# EAGLE library part 1X6-2.0 (library JLB6_Connec)
6 pin header pitch 2.0mm
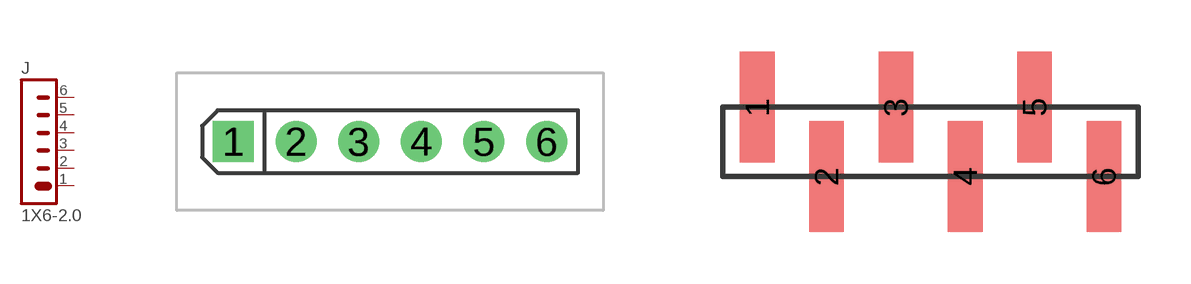
[diagram p79: symbol with the pads of 1X6-2.0; footprints 1X6-2.0, 1X6-2.0-SMD]

Designator prefix J

## 1X6-2.0TH  [1X6-2.0]
1  1  pas
2  2  pas
3  3  pas
4  4  pas
5  5  pas
6  6  pas

## 1X6-2.0SMD  [1X6-2.0-SMD]
Pads as for 1X6-2.0

## 1X6-2.0JST  [1X6-PH2.0-JST-EM]
Pads as for 1X6-2.0

## 1X6-2.0PH90  [1X6-PH2.0-JST-EM-90]
Pads as for 1X6-2.0

## Footprint 1X6-2.0 (pad centres in mm)
1x6 header Male 2.0mm
drill 0.8 square: 1 -5,0
drill 0.8: 2 -3,0; 3 -1,0; 4 1,0; 5 3,0; 6 5,0

## Footprint 1X6-2.0-SMD (pad centres in mm)
smd 1 x 3.2: 1 0,1; 2 2,-1; 3 4,1; 4 6,-1; 5 8,1; 6 10,-1

## Footprint 1X6-PH2.0-JST-EM (pad centres in mm)
drill 0.8 square: 1 -5,0
drill 0.8: 2 -3,0; 3 -1,0; 4 1,0; 5 3,0; 6 5,0

## Footprint 1X6-PH2.0-JST-EM-90 (pad centres in mm)
drill 0.8 square: 1 -5,0
drill 0.8: 2 -3,0; 3 -1,0; 4 1,0; 5 3,0; 6 5,0